# EAGLE library part USB3076-30-A (library TImingBoardPartLibrary)
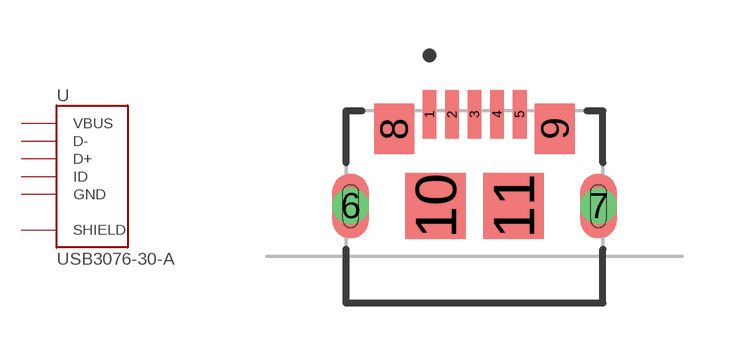
[diagram p2: symbol with the pads of GCT_USB3076-XX-X_REVC5; footprint GCT_USB3076-XX-X_REVC5]

Designator prefix -

## USB3076-30-A (LCSC: C6007475)  [GCT_USB3076-XX-X_REVC5]
1  VBUS  pwr
2  D-
3  D+
4  ID
5  GND  pwr
8  SHIELD  pwr
9  SHIELD  pwr

## Footprint GCT_USB3076-XX-X_REVC5 (pad centres in mm)
smd 0.4 x 1.4: 1 -1.3,2.65; 2 -0.65,2.65; 3 0,2.65; 4 0.65,2.65; 5 1.3,2.65
drill 0.45 pad 1.05: 6 -3.575,0; 7 3.575,0
smd 1.15 x 1.45: 8 -2.32,2.23; 9 2.32,2.23
smd 1.75 x 1.9: 10 -1.125,0; 11 1.125,0